# Altium schematic symbol library RC0603FR-0773K2L.SchLib: 1 symbol
Pins are listed as number, name and electrical type; pins without a type are passive.

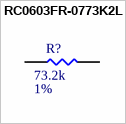
[diagram p0: symbol RC0603FR-0773K2L]

## RC0603FR-0773K2L
designator R?  Tolerance: 1%  Resistance: 73.2k  (hidden comment: RC0603FR-0773K2L)
Thick Film Resistors - SMD 73.2 kOhms 100mW 0603 1%; MFR: Yageo; Qualifications: AEC-Q200; PN: RC0603FR-0773K2L; ComponentLink1Description: Datasheet; ComponentLink1URL: https://www.mouser.ca/datasheet/2/447/Yageo_03_18_2021_PYu_RC_Group_51_RoHS_L_11-2199992.pdf; Footprint: RES0603; Package: 0603; Supplier 1: Digi-Key; Supplier Part Number 1: 311-73.2KHRCT-ND
footprint RES0603 (Generic 0603)
pins: 1, 2